# Altium schematic symbol library Analog Switch.SchLib: 1 symbol
Pins are listed as number, name and electrical type; pins without a type are passive.

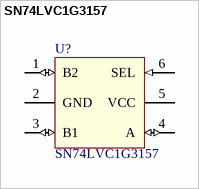
[diagram p0: symbol SN74LVC1G3157]

## SN74LVC1G3157
designator U?
Single-Pole Double-Throw Analog Switch; value: SN74LVC1G3157
footprint SOT-23-6 (Footprint not found)
footprint SC70-6 (SC6 Package 6-Lead Plastic SC70)
pins: 1 B2 (io), 2 GND (power), 3 B1 (io), 4 A (io), 5 VCC (power), 6 SEL (in)